# Altium footprint library WE-SI.PcbLib: 34 footprints (part 3 of 3)
Each footprint in its own frame and in the unit in brackets; x right, y up, seen from the top. Pads: shape width x height; smd on the part's side, far side on the other; paste and mask are expansions set on the pad; w line width, h text height; cw(c..) or ccw(c..) is an arc to the next point about the centre after c.
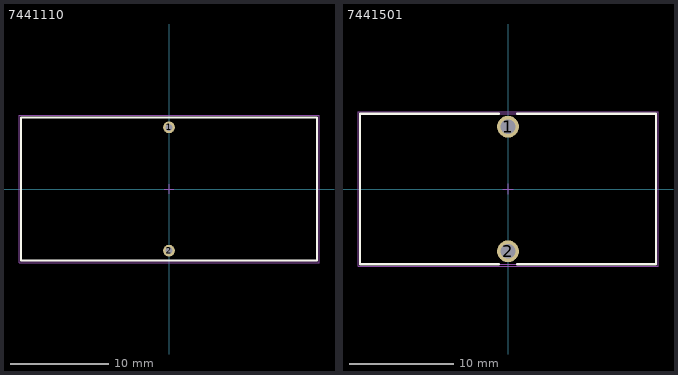
[diagram p2: the footprints below, top view; thin cyan lines are the x and y axes]

## 7441110 [mm] "THT Leaded Toroidal Storage Choke, body 30x14.5mm"
height 30
pads (2):
  round 1.2 hole 0.7: 1(0,6.25) 2(0,-6.25)
Top Overlay:
  lines w0.2: -15,-7.25 -15,7.25 15,7.25 15,-7.25 -15,-7.25
Top Designator:
  text ".Designator" at -7.498,-0.5 h1.5
Top Component Outline:
  lines w0.1: -15,-7.25 -15,7.25 15,7.25 15,-7.25 -15,-7.25
Top 3D Body:
  lines w0.1: -15,-7.25 15,-7.25 15,7.25 -15,7.25 -15,-7.25
Top Courtyard:
  lines w0.05: -0.5,0 0.5,0 ; 0,-0.5 0,0.5 ; -15.2,-7.45 -15.2,7.45 15.2,7.45 15.2,-7.45 -15.2,-7.45
3D body "7441110.stp": height 28.06, standoff -11.85, extent -14.06,-6.499 14.059,6.499

## 7441501 [mm] "THT Leaded Toroidal Storage Choke, body 28.5x14.5mm"
height 28.5
pads (2):
  round 2.1 hole 1.4: 1(0,6) 2(0,-6)
Top Overlay:
  lines w0.2: -0.85,-7.25 -14.25,-7.25 -14.25,7.25 -0.85,7.25 ; 0.85,-7.25 14.25,-7.25 14.25,7.25 0.85,7.25
Top Designator:
  text ".Designator" at -7.498,-0.5 h1.5
Top Component Outline:
  lines w0.1: -14.25,-7.25 14.25,-7.25 14.25,7.25 -14.25,7.25 -14.25,-7.25
Top 3D Body:
  lines w0.1: -14.25,-7.25 -14.25,7.25 14.25,7.25 14.25,-7.25 -14.25,-7.25
Top Courtyard:
  lines w0.05: -0.5,0 0.5,0 ; 0,-0.5 0,0.5 ; -14.45,-7.45 14.45,-7.45 14.45,7.45 -14.45,7.45 -14.45,-7.45
3D body "7441501.stp": height 24.96, standoff -11.96, extent -12.76,-6.599 12.759,6.599